# Altium schematic symbol library 05E_Capacitor.SchLib: 3 symbols
Pins are listed as number, name and electrical type; pins without a type are passive.

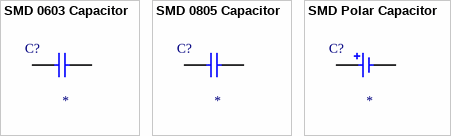
[diagram p0: symbols SMD 0603 Capacitor to SMD Polar Capacitor]

## SMD 0603 Capacitor
designator C?
SMD 0603 Capacitor; Value: *
footprint 0603_SMD_RC
pins: 1, 2

## SMD 0805 Capacitor
designator C?
SMD 0805 Capacitor; Value: *
footprint 0805_SMD_RC
pins: 1, 2

## SMD Polar Capacitor
designator C?
Value: *
footprint C_SMD_Cap
footprint G_SMD_Cap
pins: 1, 2